# Altium integrated library 142.IntLib: 7 symbols
Pins are listed as number, name and electrical type; pins without a type are passive.

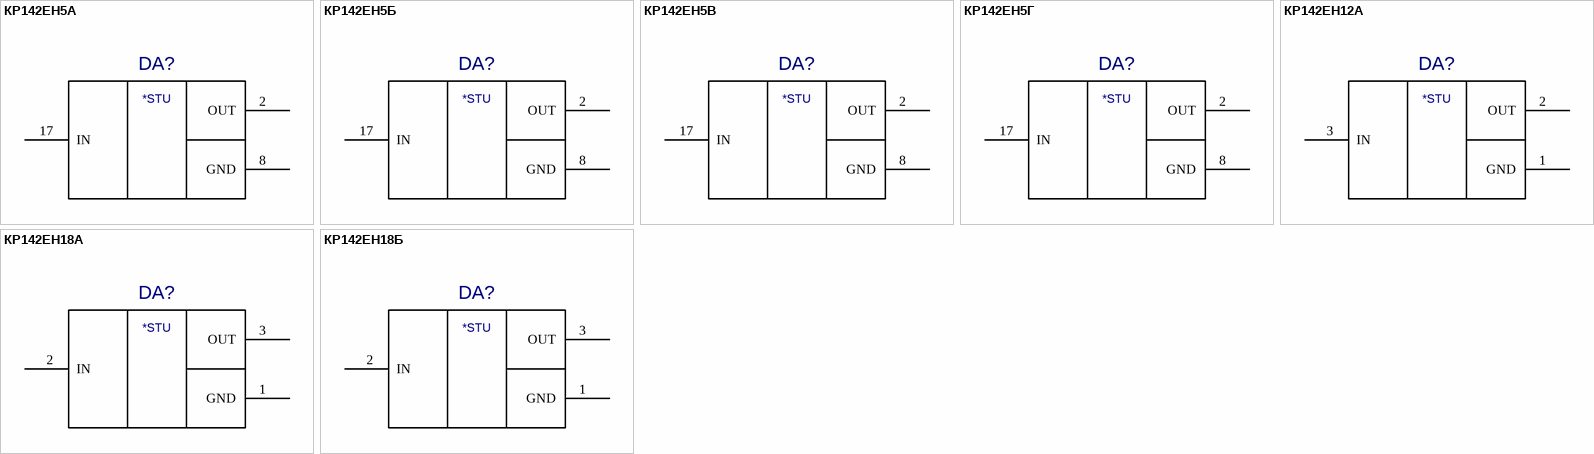
[diagram p0: symbols КР142ЕН5А to КР142ЕН18Б]

## КР142ЕН5А
designator DA?  (value not drawn)
Value: *
footprint TO-220-KT-28-2_КР142ЕН5А(Primary)
pins: 2 OUT, 4 hidden, 8 GND, 17 IN
text: *STU

## КР142ЕН5Б
designator DA?  (value not drawn)
Value: *
footprint TO-220-KT-28-2_КР142ЕН5Б(Primary)
pins: 2 OUT, 4 hidden, 8 GND, 17 IN
text: *STU

## КР142ЕН5В
designator DA?  (value not drawn)
Value: *
footprint TO-220-KT-28-2_КР142ЕН5В(Primary)
pins: 2 OUT, 4 hidden, 8 GND, 17 IN
text: *STU

## КР142ЕН5Г
designator DA?  (value not drawn)
Value: *
footprint TO-220-KT-28-2_КР142ЕН5Г(Primary)
pins: 2 OUT, 4 hidden, 8 GND, 17 IN
text: *STU

## КР142ЕН12А
designator DA?  (value not drawn)
Value: *
footprint TO-220-KT-28-2
pins: 1 GND, 2 OUT, 3 IN, 4 hidden
text: *STU

## КР142ЕН18А
designator DA?  (value not drawn)
Value: *
footprint TO-220-KT-28-2
pins: 1 GND, 2 IN, 3 OUT
text: *STU

## КР142ЕН18Б
designator DA?  (value not drawn)
Value: *
footprint TO-220-KT-28-2
pins: 1 GND, 2 IN, 3 OUT
text: *STU